# Altium schematic symbol library FPGA_Xilinx_Virtex6.SchLib: 28 symbols (part 12 of 15)
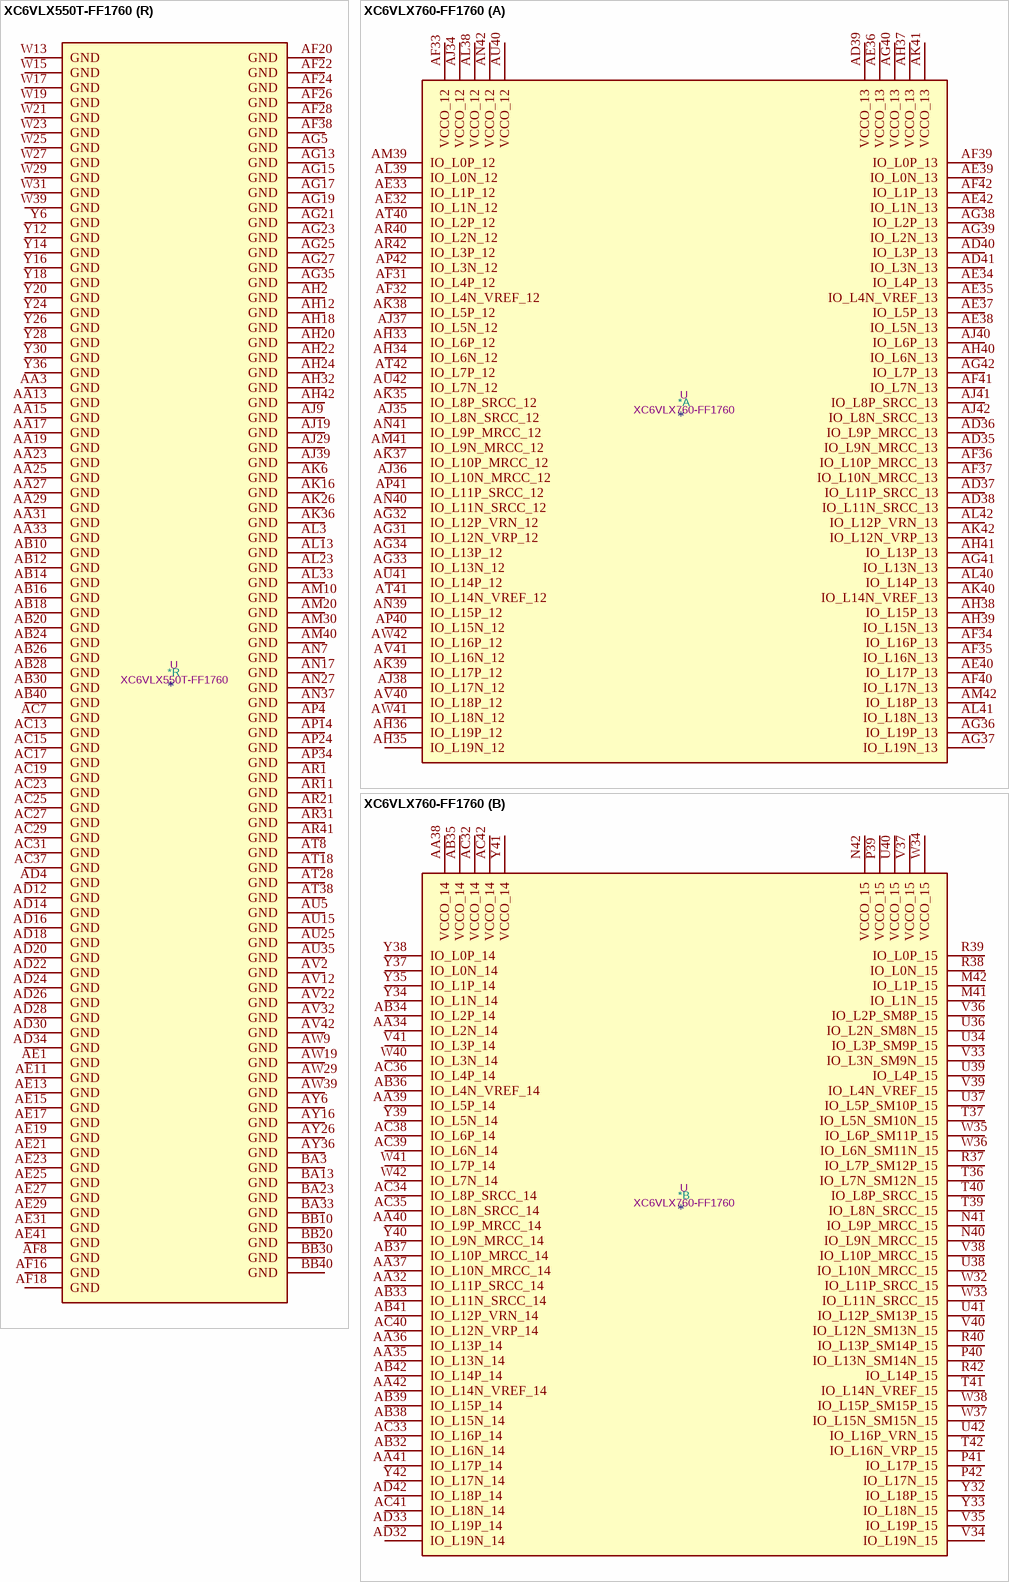
[diagram p112: symbols XC6VLX550T-FF1760 to XC6VLX760-FF1760]

## XC6VLX550T-FF1760
designator *  value XC6VLX550T-FF1760  Reference: U
Virtex 6 LXT 550 XC6VLX550T-FF1760; ki_keywords: FPGA; Description_: Virtex 6 LXT 550 XC6VLX550T-FF1760
part A pins: AD35 IO_L9N_MRCC_13, AD36 IO_L9P_MRCC_13, AD37 IO_L11P_SRCC_13, AD38 IO_L11N_SRCC_13, AD39 VCCO_13, AD40 IO_L3P_13, AD41 IO_L3N_13, AE32 IO_L1N_12, AE33 IO_L1P_12, AE34 IO_L4P_13, AE35 IO_L4N_VREF_13, AE36 VCCO_13, AE37 IO_L5P_13, AE38 IO_L5N_13, AE39 IO_L0N_13, AE40 IO_L17P_13, AE42 IO_L1N_13, AF31 IO_L4P_12, AF32 IO_L4N_VREF_12, AF33 VCCO_12, AF34 IO_L16P_13, AF35 IO_L16N_13, AF36 IO_L10P_MRCC_13, AF37 IO_L10N_MRCC_13, AF39 IO_L0P_13, AF40 IO_L17N_13, AF41 IO_L7N_13, AF42 IO_L1P_13, AG31 IO_L12N_VRP_12, AG32 IO_L12P_VRN_12, AG33 IO_L13N_12, AG34 IO_L13P_12, AG36 IO_L19P_13, AG37 IO_L19N_13, AG38 IO_L2P_13, AG39 IO_L2N_13, AG40 VCCO_13, AG41 IO_L13N_13, AG42 IO_L7P_13, AH33 IO_L6P_12, AH34 IO_L6N_12, AH35 IO_L19N_12, AH36 IO_L19P_12, AH37 VCCO_13, AH38 IO_L15P_13, AH39 IO_L15N_13, AH40 IO_L6N_13, AH41 IO_L13P_13, AJ34 VCCO_12, AJ35 IO_L8N_SRCC_12, AJ36 IO_L10N_MRCC_12, AJ37 IO_L5N_12, AJ38 IO_L17N_12, AJ40 IO_L6P_13, AJ41 IO_L8P_SRCC_13, AJ42 IO_L8N_SRCC_13, AK35 IO_L8P_SRCC_12, AK37 IO_L10P_MRCC_12, AK38 IO_L5P_12, AK39 IO_L17P_12, AK40 IO_L14N_VREF_13, AK41 VCCO_13, AK42 IO_L12N_VRP_13, AL38 VCCO_12, AL39 IO_L0N_12, AL40 IO_L14P_13, AL41 IO_L18N_13, AL42 IO_L12P_VRN_13, AM39 IO_L0P_12, AM41 IO_L9N_MRCC_12, AM42 IO_L18P_13, AN39 IO_L15P_12, AN40 IO_L11N_SRCC_12, AN41 IO_L9P_MRCC_12, AN42 VCCO_12, AP40 IO_L15N_12, AP41 IO_L11P_SRCC_12, AP42 IO_L3N_12, AR40 IO_L2N_12, AR42 IO_L3P_12, AT40 IO_L2P_12, AT41 IO_L14N_VREF_12, AT42 IO_L7P_12, AU40 VCCO_12, AU41 IO_L14P_12, AU42 IO_L7N_12, AV40 IO_L18P_12, AV41 IO_L16N_12, AW41 IO_L18N_12, AW42 IO_L16P_12
part B pins: AA32 IO_L11P_SRCC_14, AA34 IO_L2N_14, AA35 IO_L13N_14, AA36 IO_L13P_14, AA37 IO_L10N_MRCC_14, AA38 VCCO_14, AA39 IO_L5P_14, AA40 IO_L9P_MRCC_14, AA41 IO_L17P_14, AA42 IO_L14N_VREF_14, AB32 IO_L16N_14, AB33 IO_L11N_SRCC_14, AB34 IO_L2P_14, AB35 VCCO_14, AB36 IO_L4N_VREF_14, AB37 IO_L10P_MRCC_14, AB38 IO_L15N_14, AB39 IO_L15P_14, AB41 IO_L12P_VRN_14, AB42 IO_L14P_14, AC32 VCCO_14, AC33 IO_L16P_14, AC34 IO_L8P_SRCC_14, AC35 IO_L8N_SRCC_14, AC36 IO_L4P_14, AC38 IO_L6P_14, AC39 IO_L6N_14, AC40 IO_L12N_VRP_14, AC41 IO_L18N_14, AC42 VCCO_14, AD32 IO_L19N_14, AD33 IO_L19P_14, AD42 IO_L18P_14, M41 IO_L1N_15, M42 IO_L1P_15, N40 IO_L9N_MRCC_15, N41 IO_L9P_MRCC_15, N42 VCCO_15, P39 VCCO_15, P40 IO_L13N_SM14N_15, P41 IO_L17P_15, P42 IO_L17N_15, R37 IO_L7P_SM12P_15, R38 IO_L0N_15, R39 IO_L0P_15, R40 IO_L13P_SM14P_15, R42 IO_L14P_15, T36 IO_L7N_SM12N_15, T37 IO_L5N_SM10N_15, T39 IO_L8N_SRCC_15, T40 IO_L8P_SRCC_15, T41 IO_L14N_VREF_15, T42 IO_L16N_VRP_15, U34 IO_L3P_SM9P_15, U36 IO_L2N_SM8N_15, U37 IO_L5P_SM10P_15, U38 IO_L10N_MRCC_15, U39 IO_L4P_15, U40 VCCO_15, U41 IO_L12P_SM13P_15, U42 IO_L16P_VRN_15, V33 IO_L3N_SM9N_15, V34 IO_L19N_15, V35 IO_L19P_15, V36 IO_L2P_SM8P_15, V37 VCCO_15, V38 IO_L10P_MRCC_15, V39 IO_L4N_VREF_15, V40 IO_L12N_SM13N_15, V41 IO_L3P_14, W32 IO_L11P_SRCC_15, W33 IO_L11N_SRCC_15, W34 VCCO_15, W35 IO_L6P_SM11P_15, W36 IO_L6N_SM11N_15, W37 IO_L15N_SM15N_15, W38 IO_L15P_SM15P_15, W40 IO_L3N_14, W41 IO_L7P_14, W42 IO_L7N_14, Y32 IO_L18P_15, Y33 IO_L18N_15, Y34 IO_L1N_14, Y35 IO_L1P_14, Y37 IO_L0N_14, Y38 IO_L0P_14, Y39 IO_L5N_14, Y40 IO_L9N_MRCC_14, Y41 VCCO_14, Y42 IO_L17N_14
part C pins: A40 IO_L3N_17, A41 IO_L3P_17, B39 IO_L1P_17, B41 IO_L7P_17, B42 IO_L7N_17, C39 IO_L1N_17, C40 IO_L9N_MRCC_17, C41 IO_L9P_MRCC_17, C42 VCCO_17, D39 VCCO_17, D40 IO_L14P_17, D41 IO_L16N_17, D42 IO_L16P_17, E38 IO_L5N_17, E39 IO_L5P_17, E40 IO_L14N_VREF_17, E42 IO_L18N_17, F39 IO_L2N_17, F40 IO_L2P_17, F41 IO_L18P_17, F42 IO_L13N_16, G37 IO_L0P_17, G38 IO_L4N_VREF_17, G39 IO_L12N_VRP_17, G40 VCCO_16, G41 IO_L11N_SRCC_16, G42 IO_L13P_16, H36 IO_L0N_17, H37 VCCO_17, H38 IO_L4P_17, H39 IO_L12P_VRN_17, H40 IO_L11P_SRCC_16, H41 IO_L19N_16, J34 VCCO_17, J35 IO_L17N_17, J36 IO_L19P_17, J37 IO_L10N_MRCC_17, J38 IO_L10P_MRCC_17, J40 IO_L9P_MRCC_16, J41 IO_L16N_16, J42 IO_L19P_16, K34 IO_L17P_17, K35 IO_L19N_17, K37 IO_L15P_17, K38 IO_L0P_16, K39 IO_L9N_MRCC_16, K40 IO_L6N_16, K41 VCCO_16, K42 IO_L16P_16, L34 IO_L11N_SRCC_17, L35 IO_L6P_17, L36 IO_L15N_17, L37 IO_L0N_16, L38 VCCO_16, L39 IO_L4N_VREF_16, L40 IO_L6P_16, L41 IO_L18N_16, L42 IO_L18P_16, M33 IO_L11P_SRCC_17, M34 IO_L6N_17, M35 VCCO_17, M36 IO_L3P_16, M37 IO_L10N_MRCC_16, M38 IO_L10P_MRCC_16, M39 IO_L4P_16, N32 VCCO_17, N33 IO_L13P_17, N34 IO_L8N_SRCC_17, N35 IO_L3N_16, N36 IO_L5N_16, N38 IO_L12N_VRP_16, N39 IO_L12P_VRN_16, P32 IO_L13N_17, P33 IO_L8P_SRCC_17, P35 IO_L17N_16, P36 IO_L5P_16, P37 IO_L15N_16, P38 IO_L15P_16, R32 IO_L1N_16, R33 IO_L1P_16, R34 IO_L17P_16, R35 IO_L2N_16, R36 VCCO_16, T31 IO_L7P_16, T32 IO_L7N_16, T33 VCCO_16, T34 IO_L8N_SRCC_16, T35 IO_L2P_16, U31 IO_L14P_16, U32 IO_L14N_VREF_16, U33 IO_L8P_SRCC_16
part D pins: AH26 IO_L4N_VREF_21, AJ22 IO_L8N_SRCC_21, AJ23 IO_L8P_SRCC_21, AJ24 VCCO_21, AJ25 IO_L12N_VRP_21, AJ26 IO_L4P_21, AK22 IO_L16N_21, AK23 IO_L16P_21, AK24 IO_L19P_21, AK25 IO_L12P_VRN_21, AL24 IO_L15P_21, AL25 IO_L19N_21, AM23 IO_L18P_21, AM24 IO_L15N_21, AM25 VCCO_21, AM26 IO_L17N_21, AN23 IO_L18N_21, AN24 IO_L14P_21, AN25 IO_L14N_VREF_21, AN26 IO_L17P_21, AP23 IO_L11P_SRCC_20, AP25 IO_L9P_MRCC_20, AP26 IO_L13P_21, AP27 IO_L13N_21, AR23 IO_L11N_SRCC_20, AR24 IO_L2P_20, AR25 IO_L9N_MRCC_20, AR26 VCCO_21, AR27 IO_L11N_SRCC_21, AT22 IO_L10P_MRCC_20, AT23 VCCO_20, AT24 IO_L15P_20, AT25 IO_L2N_20, AT26 IO_L10N_MRCC_21, AT27 IO_L11P_SRCC_21, AU22 IO_L10N_MRCC_20, AU23 IO_L19P_20, AU24 IO_L15N_20, AU26 IO_L10P_MRCC_21, AU27 IO_L5P_21, AU28 IO_L5N_21, AU29 IO_L0P_21, AV23 IO_L19N_20, AV24 IO_L5P_20, AV25 IO_L0N_20, AV26 IO_L0P_20, AV27 VCCO_21, AV28 IO_L6N_21, AV29 IO_L0N_21, AW22 IO_L6P_20, AW23 IO_L6N_20, AW24 VCCO_20, AW25 IO_L5N_20, AW26 IO_L1N_20, AW27 IO_L6P_21, AW28 IO_L9P_MRCC_21, AW30 IO_L2N_21, AY21 VCCO_20, AY22 IO_L16P_20, AY23 IO_L16N_20, AY24 IO_L8N_SRCC_20, AY25 IO_L4N_VREF_20, AY27 IO_L1P_20, AY28 IO_L3N_20, AY29 IO_L9N_MRCC_21, AY30 IO_L2P_21, AY31 VCCO_21, AY32 IO_L1N_21, BA21 IO_L12P_VRN_20, BA22 IO_L18P_20, BA24 IO_L8P_SRCC_20, BA25 IO_L4P_20, BA26 IO_L13N_20, BA27 IO_L17N_20, BA28 VCCO_20, BA29 IO_L3P_20, BA30 IO_L7N_21, BA31 IO_L3P_21, BA32 IO_L1P_21, BB21 IO_L12N_VRP_20, BB22 IO_L18N_20, BB23 IO_L14P_20, BB24 IO_L14N_VREF_20, BB25 VCCO_20, BB26 IO_L13P_20, BB27 IO_L17P_20, BB28 IO_L7N_20, BB29 IO_L7P_20, BB31 IO_L7P_21, BB32 IO_L3N_21
part E pins: AJ27 IO_L19N_22, AJ28 IO_L0P_22, AK27 IO_L19P_22, AK28 IO_L0N_22, AL26 IO_L18P_22, AL27 IO_L16P_22, AL28 VCCO_22, AM27 IO_L18N_22, AM28 IO_L16N_22, AM29 IO_L17P_22, AM31 IO_L6P_23, AM32 IO_L6N_23, AN28 IO_L14P_22, AN29 IO_L17N_22, AN30 IO_L18P_23, AN31 IO_L18N_23, AN32 VCCO_23, AN33 IO_L13N_23, AP28 IO_L14N_VREF_22, AP29 VCCO_22, AP30 IO_L7N_22, AP31 IO_L7P_22, AP32 IO_L16P_23, AP33 IO_L13P_23, AR28 IO_L13P_22, AR29 IO_L11N_SRCC_22, AR30 IO_L9P_MRCC_22, AR32 IO_L16N_23, AR33 IO_L14P_23, AR34 IO_L17N_23, AT29 IO_L13N_22, AT30 IO_L11P_SRCC_22, AT31 IO_L9N_MRCC_22, AT32 IO_L4P_22, AT33 VCCO_23, AT34 IO_L14N_VREF_23, AT35 IO_L17P_23, AU30 VCCO_22, AU31 IO_L15N_22, AU32 IO_L6N_22, AU33 IO_L4N_VREF_22, AU34 IO_L5N_22, AU36 IO_L10P_MRCC_23, AU37 IO_L10N_MRCC_23, AU38 IO_L5N_23, AU39 IO_L0P_23, AV30 IO_L12P_VRN_22, AV31 IO_L15P_22, AV33 IO_L6P_22, AV34 IO_L5P_22, AV35 IO_L19N_23, AV36 IO_L15P_23, AV37 VCCO_23, AV38 IO_L5P_23, AV39 IO_L0N_23, AW31 IO_L12N_VRP_22, AW32 IO_L10P_MRCC_22, AW33 IO_L10N_MRCC_22, AW34 VCCO_22, AW35 IO_L2N_22, AW36 IO_L19P_23, AW37 IO_L15N_23, AW38 IO_L2N_23, AW40 IO_L1N_23, AY33 IO_L8P_SRCC_22, AY34 IO_L8N_SRCC_22, AY35 IO_L2P_22, AY37 IO_L4N_VREF_23, AY38 IO_L2P_23, AY39 IO_L9N_MRCC_23, AY40 IO_L1P_23, AY41 VCCO_23, AY42 IO_L3N_23, BA34 IO_L1P_22, BA35 IO_L1N_22, BA36 IO_L12N_VRP_23, BA37 IO_L4P_23, BA38 VCCO_23, BA39 IO_L9P_MRCC_23, BA40 IO_L11P_SRCC_23, BA41 IO_L7P_23, BA42 IO_L3P_23, BB33 IO_L3P_22, BB34 IO_L3N_22, BB35 VCCO_22, BB36 IO_L12P_VRN_23, BB37 IO_L8P_SRCC_23, BB38 IO_L8N_SRCC_23, BB39 IO_L11N_SRCC_23, BB41 IO_L7N_23
part F pins: A36 IO_L7P_25, A37 IO_L9N_MRCC_25, A38 VCCO_25, A39 IO_L18P_GC_25, AG30 VCCO_24, AH29 IO_L18P_24, AH30 IO_L11N_SRCC_24, AH31 IO_L2N_D14_24, AJ30 IO_L18N_24, AJ31 IO_L11P_SRCC_24, AJ32 IO_L2P_D15_24, AJ33 IO_L4N_VREF_D10_24, AK29 IO_L19N_24, AK30 IO_L16P_RS0_24, AK31 VCCO_24, AK32 IO_L17N_VRP_24, AK33 IO_L17P_VRN_24, AK34 IO_L4P_D11_24, AL29 IO_L19P_24, AL30 IO_L16N_CSO_B_24, AL31 IO_L14P_FCS_B_24, AL32 IO_L14N_VREF_FOE_B_MOSI_24, AL34 IO_L7N_D4_24, AL35 IO_L7P_D5_24, AL36 IO_L0P_GC_24, AL37 IO_L0N_GC_24, AM33 IO_L13P_D1_FS1_24, AM34 IO_L13N_D0_FS0_24, AM35 VCCO_24, AM36 IO_L5P_D9_24, AM37 IO_L5N_D8_24, AM38 IO_L6N_D6_24, AN34 IO_L12P_D3_24, AN35 IO_L12N_D2_FS2_24, AN36 IO_L10N_MRCC_24, AN38 IO_L6P_D7_24, AP35 IO_L15P_FWE_B_24, AP36 IO_L15N_RS1_24, AP37 IO_L10P_MRCC_24, AP38 IO_L1N_GC_24, AP39 VCCO_24, AR35 IO_L8P_SRCC_24, AR36 VCCO_24, AR37 IO_L9N_MRCC_24, AR38 IO_L1P_GC_24, AR39 IO_L3N_D12_24, AT36 IO_L8N_SRCC_24, AT37 IO_L9P_MRCC_24, AT39 IO_L3P_D13_24, B36 IO_L7N_25, B37 IO_L9P_MRCC_25, B38 IO_L18N_GC_25, C36 IO_L11P_SRCC_25, C38 IO_L5N_25, D36 IO_L16P_VRN_25, D37 IO_L11N_SRCC_25, D38 IO_L5P_25, E35 IO_L16N_VRP_25, E36 VCCO_25, E37 IO_L15N_25, F33 VCCO_25, F34 IO_L0P_25, F35 IO_L0N_25, F36 IO_L10N_MRCC_25, F37 IO_L15P_25, G34 IO_L12P_25, G36 IO_L10P_MRCC_25, H33 IO_L12N_25, H34 IO_L6N_25, H35 IO_L6P_25, J32 IO_L8N_SRCC_25, J33 IO_L14N_VREF_25, K31 VCCO_25, K32 IO_L8P_SRCC_25, K33 IO_L14P_25, L30 IO_L4N_VREF_25, L31 IO_L4P_25, L32 IO_L13N_25, M29 IO_L3P_25, M31 IO_L13P_25, M32 IO_L19N_GC_25, N28 IO_L3N_25, N29 IO_L2N_25, N30 IO_L17P_25, N31 IO_L19P_GC_25, P28 IO_L1N_25, P29 VCCO_25, P30 IO_L2P_25, P31 IO_L17N_25, R28 IO_L1P_25
part G pins: A28 VCCO_27, A29 IO_L16N_27, A30 IO_L16P_27, A31 IO_L18P_27, A32 IO_L7P_26, A34 IO_L9N_MRCC_26, A35 IO_L9P_MRCC_26, B28 IO_L11P_SRCC_27, B29 IO_L11N_SRCC_27, B31 IO_L18N_27, B32 IO_L7N_26, B33 IO_L11P_SRCC_26, B34 IO_L18N_26, B35 VCCO_26, C28 IO_L13N_27, C29 IO_L13P_27, C30 IO_L14N_VREF_27, C31 IO_L14P_27, C32 VCCO_26, C33 IO_L15P_26, C34 IO_L11N_SRCC_26, C35 IO_L18P_26, D28 IO_L10P_MRCC_27, D29 VCCO_27, D30 IO_L15P_27, D31 IO_L19P_27, D32 IO_L15N_26, D33 IO_L10P_MRCC_26, D35 IO_L19P_26, E28 IO_L10N_MRCC_27, E29 IO_L15N_27, E30 IO_L19N_27, E32 IO_L6P_26, E33 IO_L10N_MRCC_26, E34 IO_L19N_26, F27 IO_L5N_27, F29 IO_L6N_27, F30 IO_L5N_26, F31 IO_L5P_26, F32 IO_L6N_26, G26 IO_L3N_27, G27 IO_L3P_27, G28 IO_L5P_27, G29 IO_L6P_27, G30 VCCO_26, G31 IO_L14P_26, G32 IO_L16N_26, G33 IO_L16P_26, H26 IO_L7P_27, H27 VCCO_27, H28 IO_L12P_VRN_27, H29 IO_L17P_26, H30 IO_L17N_26, H31 IO_L14N_VREF_26, J26 IO_L7N_27, J27 IO_L12N_VRP_27, J28 IO_L13N_26, J30 IO_L4P_26, J31 IO_L8N_SRCC_26, K27 IO_L17N_27, K28 IO_L13P_26, K29 IO_L4N_VREF_26, K30 IO_L8P_SRCC_26, L25 IO_L0P_27, L26 IO_L17P_27, L27 IO_L3P_26, L28 VCCO_26, L29 IO_L12N_VRP_26, M21 IO_L2N_27, M22 IO_L2P_27, M23 IO_L4N_VREF_27, M24 IO_L0N_27, M25 VCCO_27, M26 IO_L1N_27, M27 IO_L3N_26, M28 IO_L12P_VRN_26, N21 IO_L8P_SRCC_27, N22 VCCO_27, N23 IO_L4P_27, N24 IO_L9N_MRCC_27, N25 IO_L1P_27, N26 IO_L1N_26, P22 IO_L8N_SRCC_27, P23 IO_L9P_MRCC_27, P25 IO_L2P_26, P26 IO_L1P_26, P27 IO_L0P_26, R25 IO_L2N_26, R26 VCCO_26, R27 IO_L0N_26
part H pins: A22 IO_L9N_MRCC_28, A24 IO_L16N_28, A25 IO_L16P_28, A26 IO_L18N_28, A27 IO_L18P_28, AL22 IO_L10N_MRCC_30, AM21 IO_L15N_30, AM22 IO_L10P_MRCC_30, AN20 IO_L16P_30, AN21 IO_L15P_30, AN22 VCCO_30, AP20 IO_L16N_30, AP21 IO_L18P_30, AP22 IO_L13N_30, AR19 IO_L1N_30, AR20 IO_L18N_30, AR22 IO_L13P_30, AT19 IO_L1P_30, AT20 IO_L17N_30, AT21 IO_L17P_30, AU18 IO_L0P_30, AU19 IO_L5P_30, AU20 VCCO_30, AU21 IO_L19P_30, AV17 VCCO_30, AV18 IO_L0N_30, AV19 IO_L5N_30, AV20 IO_L6P_30, AV21 IO_L19N_30, AW17 IO_L8N_SRCC_30, AW18 IO_L12N_VRP_30, AW20 IO_L6N_30, AW21 IO_L11P_SRCC_30, AY17 IO_L8P_SRCC_30, AY18 IO_L12P_VRN_30, AY19 IO_L14P_30, AY20 IO_L11N_SRCC_30, B22 IO_L9P_MRCC_28, B23 IO_L11N_SRCC_28, B24 IO_L1P_28, B25 VCCO_28, B26 IO_L12P_VRN_28, B27 IO_L14P_28, BA14 IO_L2N_30, BA15 IO_L4N_VREF_30, BA16 IO_L3N_30, BA17 IO_L3P_30, BA18 VCCO_30, BA19 IO_L14N_VREF_30, BA20 IO_L9P_MRCC_30, BB14 IO_L2P_30, BB15 VCCO_30, BB16 IO_L4P_30, BB17 IO_L7P_30, BB18 IO_L7N_30, BB19 IO_L9N_MRCC_30, C22 VCCO_28, C23 IO_L11P_SRCC_28, C24 IO_L1N_28, C25 IO_L12N_VRP_28, C26 IO_L14N_VREF_28, D22 IO_L0N_28, D23 IO_L5N_28, D25 IO_L15N_28, D26 IO_L15P_28, D27 IO_L19N_28, E22 IO_L0P_28, E23 IO_L5P_28, E24 IO_L6P_28, E25 IO_L6N_28, E26 VCCO_28, E27 IO_L19P_28, F22 IO_L13P_28, F23 VCCO_28, F24 IO_L3N_28, F25 IO_L10N_MRCC_28, F26 IO_L10P_MRCC_28, G22 IO_L13N_28, G23 IO_L17P_28, G24 IO_L3P_28, H23 IO_L17N_28, H24 IO_L7P_28, H25 IO_L7N_28, J23 IO_L8N_SRCC_28, J24 VCCO_28, J25 IO_L2N_28, K23 IO_L8P_SRCC_28, K24 IO_L2P_28, K25 IO_L4N_VREF_28, L24 IO_L4P_28
part I pins: AJ17 IO_L15N_32, AJ18 IO_L7N_32, AJ20 IO_L6P_31, AJ21 IO_L10N_MRCC_31, AK15 IO_L2N_32, AK17 IO_L15P_32, AK18 IO_L7P_32, AK19 IO_L6N_31, AK20 IO_L10P_MRCC_31, AK21 VCCO_31, AL15 IO_L2P_32, AL16 IO_L14N_VREF_32, AL17 IO_L19N_32, AL18 VCCO_32, AL19 IO_L16P_31, AL20 IO_L18N_31, AL21 IO_L18P_31, AM15 VCCO_32, AM16 IO_L14P_32, AM17 IO_L19P_32, AM18 IO_L16N_31, AM19 IO_L3N_31, AN15 IO_L18N_32, AN16 IO_L1N_32, AN18 IO_L1N_31, AN19 IO_L3P_31, AP15 IO_L18P_32, AP16 IO_L1P_32, AP17 IO_L7P_31, AP18 IO_L1P_31, AP19 VCCO_31, AR12 IO_L16N_32, AR13 IO_L3N_32, AR14 IO_L3P_32, AR15 IO_L9N_MRCC_32, AR16 VCCO_31, AR17 IO_L7N_31, AR18 IO_L9N_MRCC_31, AT10 IO_L4P_32, AT11 IO_L4N_VREF_32, AT12 IO_L16P_32, AT13 VCCO_32, AT14 IO_L9P_MRCC_32, AT15 IO_L14N_VREF_31, AT16 IO_L14P_31, AT17 IO_L9P_MRCC_31, AU9 IO_L0P_32, AU10 VCCO_32, AU11 IO_L5P_32, AU12 IO_L6P_32, AU13 IO_L10N_MRCC_32, AU14 IO_L10P_MRCC_32, AU16 IO_L5P_31, AU17 IO_L19P_31, AV8 IO_L8N_SRCC_32, AV9 IO_L0N_32, AV10 IO_L5N_32, AV11 IO_L6N_32, AV13 IO_L0P_31, AV14 IO_L0N_31, AV15 IO_L5N_31, AV16 IO_L19N_31, AW8 IO_L8P_SRCC_32, AW10 IO_L11P_SRCC_32, AW11 IO_L2P_31, AW12 IO_L12N_VRP_31, AW13 IO_L12P_VRN_31, AW14 VCCO_31, AW15 IO_L15N_31, AW16 IO_L15P_31, AY8 IO_L12P_VRN_32, AY9 IO_L11N_SRCC_32, AY10 IO_L2N_31, AY11 VCCO_31, AY12 IO_L11P_SRCC_31, AY13 IO_L11N_SRCC_31, AY14 IO_L13N_31, AY15 IO_L13P_31, BA7 IO_L12N_VRP_32, BA8 VCCO_32, BA9 IO_L13N_32, BA10 IO_L4N_VREF_31, BA11 IO_L4P_31, BA12 IO_L8P_SRCC_31, BB7 IO_L17P_32, BB8 IO_L17N_32, BB9 IO_L13P_32, BB11 IO_L8N_SRCC_31, BB12 IO_L17P_31, BB13 IO_L17N_31
part J pins: AH11 IO_L0P_GC_34, AH16 IO_L6N_33, AJ10 IO_L0N_GC_34, AJ11 IO_L13N_A00_D16_34, AJ12 IO_L16N_A20_34, AJ13 IO_L2N_33, AJ14 VCCO_33, AJ15 IO_L5N_33, AJ16 IO_L6P_33, AK8 IO_L2N_A14_D30_34, AK9 IO_L11P_SRCC_34, AK10 IO_L13P_A01_D17_34, AK11 VCCO_34, AK12 IO_L16P_A21_34, AK13 IO_L2P_33, AK14 IO_L5P_33, AL7 IO_L2P_A15_D31_34, AL8 VCCO_34, AL9 IO_L11N_SRCC_34, AL10 IO_L17N_A18_34, AL11 IO_L18N_A16_34, AL12 IO_L18P_A17_34, AL14 IO_L18N_33, AM7 IO_L5N_A08_D24_34, AM8 IO_L19N_VRP_34, AM9 IO_L17P_A19_34, AM11 IO_L1N_33, AM12 IO_L14P_33, AM13 IO_L16P_33, AM14 IO_L18P_33, AN6 IO_L5P_A09_D25_34, AN8 IO_L19P_VRN_34, AN9 IO_L4N_VREF_33, AN10 IO_L1P_33, AN11 IO_L14N_VREF_33, AN12 VCCO_33, AN13 IO_L16N_33, AN14 IO_L17P_33, AP5 IO_L6N_A06_D22_34, AP6 IO_L15N_A22_34, AP7 IO_L15P_A23_34, AP8 IO_L4P_33, AP9 VCCO_33, AP10 IO_L3N_33, AP11 IO_L7P_33, AP12 IO_L7N_33, AP13 IO_L17N_33, AR5 IO_L6P_A07_D23_34, AR6 VCCO_34, AR7 IO_L8N_SRCC_33, AR8 IO_L0N_33, AR9 IO_L9N_MRCC_33, AR10 IO_L3P_33, AT4 IO_L14N_VREF_A24_34, AT5 IO_L14P_A25_34, AT6 IO_L8P_SRCC_33, AT7 IO_L0P_33, AT9 IO_L9P_MRCC_33, AU4 IO_L4P_A11_D27_34, AU6 IO_L10N_MRCC_33, AU7 IO_L19N_33, AU8 IO_L19P_33, AV3 IO_L4N_VREF_A10_D26_34, AV4 IO_L10N_MRCC_34, AV5 IO_L10P_MRCC_34, AV6 IO_L10P_MRCC_33, AV7 VCCO_33, AW1 IO_L1N_GC_34, AW2 IO_L1P_GC_34, AW3 IO_L9N_MRCC_34, AW4 VCCO_34, AW5 IO_L15N_33, AW6 IO_L15P_33, AW7 IO_L11P_SRCC_33, AY1 VCCO_34, AY2 IO_L3P_A13_D29_34, AY3 IO_L9P_MRCC_34, AY4 IO_L12P_A03_D19_34, AY5 IO_L12N_VRP_33, AY7 IO_L11N_SRCC_33, BA1 IO_L3N_A12_D28_34, BA2 IO_L7P_A05_D21_34, BA4 IO_L12N_A02_D18_34, BA5 IO_L12P_VRN_33, BA6 IO_L13N_33, BB2 IO_L7N_A04_D20_34, BB3 IO_L8N_SRCC_34, BB4 IO_L8P_SRCC_34, BB5 VCCO_33, BB6 IO_L13P_33
part K pins: A5 IO_L14P_36, A6 IO_L14N_VREF_36, A7 IO_L8N_SRCC_36, A8 VCCO_36, A9 IO_L3P_36, A10 IO_L3N_36, A11 IO_L1P_36, A12 IO_L1N_36, B6 IO_L18N_36, B7 IO_L8P_SRCC_36, B8 IO_L9P_MRCC_36, B9 IO_L9N_MRCC_36, B11 IO_L7N_36, B12 IO_L7P_36, C6 IO_L18P_36, C8 IO_L4P_36, C9 IO_L4N_VREF_36, C10 IO_L11N_SRCC_36, C11 IO_L11P_SRCC_36, C12 VCCO_36, D6 IO_L1P_35, D7 IO_L1N_35, D8 IO_L6N_36, D9 VCCO_36, D10 IO_L0P_36, D11 IO_L0N_36, D12 IO_L5N_36, E6 VCCO_35, E7 IO_L5N_SM2N_35, E8 IO_L6P_36, E9 IO_L15P_36, E10 IO_L15N_36, E12 IO_L5P_36, F6 IO_L6N_SM3N_35, F7 IO_L5P_SM2P_35, F9 IO_L0N_35, F10 IO_L0P_35, F11 IO_L19P_36, F12 IO_L19N_36, F13 VCCO_36, G6 IO_L6P_SM3P_35, G7 IO_L10P_MRCC_35, G8 IO_L10N_MRCC_35, G9 IO_L2N_SM0N_35, G10 VCCO_35, G11 IO_L2P_36, G12 IO_L2N_36, G13 IO_L17P_36, G14 IO_L13N_36, H7 VCCO_35, H8 IO_L15N_SM7N_35, H9 IO_L2P_SM0P_35, H10 IO_L3N_SM1N_35, H11 IO_L3P_SM1P_35, H13 IO_L17N_36, H14 IO_L13P_36, J7 IO_L19N_GC_35, J8 IO_L15P_SM7P_35, J10 IO_L7P_SM4P_35, J11 IO_L7N_SM4N_35, J12 IO_L9N_MRCC_35, J13 IO_L12P_VRN_36, J14 VCCO_36, J15 IO_L10P_MRCC_36, J16 IO_L10N_MRCC_36, K8 IO_L19P_GC_35, K9 IO_L12N_SM5N_35, K10 IO_L8P_SRCC_35, K11 VCCO_35, K12 IO_L11P_SRCC_35, K13 IO_L9P_MRCC_35, K14 IO_L12N_VRP_36, K15 IO_L16N_36, L10 IO_L12P_SM5P_35, L11 IO_L8N_SRCC_35, L12 IO_L11N_SRCC_35, L14 IO_L4N_VREF_35, L15 IO_L13N_SM6N_35, L16 IO_L16P_36, M12 IO_L14N_VREF_35, M13 IO_L14P_35, M14 IO_L4P_35, M15 VCCO_35, M16 IO_L13P_SM6P_35, N14 IO_L16P_VRN_35, N15 IO_L16N_VRP_35, N16 IO_L17P_35, P15 IO_L18N_GC_35, P16 IO_L17N_35, R15 IO_L18P_GC_35
part L pins: A14 IO_L1P_37, A15 IO_L1N_37, A16 IO_L18P_38, A17 IO_L18N_38, A18 VCCO_38, A19 IO_L13P_38, A20 IO_L13N_38, A21 IO_L11N_SRCC_38, B13 IO_L3P_37, B14 IO_L3N_37, B15 VCCO_37, B16 IO_L16P_38, B17 IO_L16N_38, B18 IO_L14P_38, B19 IO_L14N_VREF_38, B21 IO_L11P_SRCC_38, C13 IO_L12P_VRN_37, C14 IO_L12N_VRP_37, C15 IO_L11P_SRCC_37, C16 IO_L7P_37, C18 IO_L12P_VRN_38, C19 IO_L12N_VRP_38, C20 IO_L17P_38, C21 IO_L9N_MRCC_38, D13 IO_L0P_37, D15 IO_L11N_SRCC_37, D16 IO_L7N_37, D17 IO_L10P_MRCC_38, D18 IO_L10N_MRCC_38, D19 VCCO_38, D20 IO_L17N_38, D21 IO_L9P_MRCC_38, E13 IO_L0N_37, E14 IO_L5P_37, E15 IO_L5N_37, E16 VCCO_37, E17 IO_L6P_38, E18 IO_L15N_38, E19 IO_L5N_38, E20 IO_L0N_38, F14 IO_L6N_37, F15 IO_L6P_37, F16 IO_L10N_MRCC_37, F17 IO_L6N_38, F19 IO_L15P_38, F20 IO_L5P_38, F21 IO_L0P_38, G16 IO_L10P_MRCC_37, G17 IO_L13N_37, G18 IO_L4P_38, G19 IO_L19P_38, G20 VCCO_38, G21 IO_L3P_38, H15 IO_L8P_SRCC_37, H16 IO_L8N_SRCC_37, H17 VCCO_37, H18 IO_L13P_37, H19 IO_L4N_VREF_38, H20 IO_L19N_38, H21 IO_L3N_38, J17 IO_L2N_37, J18 IO_L15N_37, J20 IO_L2N_38, J21 IO_L1N_38, J22 IO_L1P_38, K17 IO_L2P_37, K18 IO_L15P_37, K19 IO_L17P_37, K20 IO_L2P_38, K21 VCCO_38, K22 IO_L7P_38, L17 IO_L14N_VREF_37, L18 VCCO_37, L19 IO_L17N_37, L20 IO_L8N_SRCC_38, L21 IO_L8P_SRCC_38, L22 IO_L7N_38, M17 IO_L14P_37, M18 IO_L19P_37, M19 IO_L19N_37, N18 IO_L16N_37, N19 IO_L4N_VREF_37, N20 IO_L9N_MRCC_37, P17 IO_L16P_37, P18 IO_L18N_37, P19 VCCO_37, P20 IO_L4P_37, P21 IO_L9P_MRCC_37, R17 IO_L18P_37
part M pins: AC10 IO_L2P_43, AC11 IO_L2N_43, AD5 IO_L0N_43, AD6 IO_L0P_43, AD7 IO_L9N_MRCC_43, AD8 IO_L11P_SRCC_43, AD9 VCCO_43, AD10 IO_L13P_43, AD11 IO_L13N_43, AE4 IO_L4N_VREF_43, AE5 IO_L5N_43, AE6 VCCO_43, AE7 IO_L9P_MRCC_43, AE8 IO_L11N_SRCC_43, AE9 IO_L17N_43, AE10 IO_L17P_43, AF1 IO_L1N_43, AF2 IO_L3N_43, AF3 VCCO_43, AF4 IO_L4P_43, AF5 IO_L5P_43, AF6 IO_L15N_43, AF7 IO_L15P_43, AF9 IO_L8N_SRCC_43, AF10 IO_L8P_SRCC_43, AF11 IO_L19N_43, AF12 IO_L19P_43, AG1 IO_L1P_43, AG2 IO_L3P_43, AG3 IO_L14N_VREF_43, AG4 IO_L10N_MRCC_43, AG6 IO_L6N_43, AG7 IO_L6P_43, AG8 IO_L12N_VRP_43, AG9 IO_L12P_VRN_43, AG10 VCCO_43, AG11 IO_L18N_43, AG12 IO_L18P_43, AH1 IO_L7P_43, AH3 IO_L14P_43, AH4 IO_L10P_MRCC_43, AH5 IO_L0N_42, AH6 IO_L0P_42, AH7 VCCO_42, AH8 IO_L19P_42, AH9 IO_L14N_VREF_42, AH10 IO_L14P_42, AJ1 IO_L7N_43, AJ2 IO_L16N_43, AJ3 IO_L16P_43, AJ4 VCCO_42, AJ5 IO_L5N_42, AJ6 IO_L5P_42, AJ7 IO_L19N_42, AJ8 IO_L15P_42, AK1 VCCO_43, AK2 IO_L1N_42, AK3 IO_L3N_42, AK4 IO_L6N_42, AK5 IO_L10N_MRCC_42, AK7 IO_L15N_42, AL1 IO_L1P_42, AL2 IO_L3P_42, AL4 IO_L6P_42, AL5 IO_L10P_MRCC_42, AL6 IO_L18N_42, AM1 IO_L7P_42, AM2 IO_L7N_42, AM3 IO_L13N_42, AM4 IO_L13P_42, AM5 VCCO_42, AM6 IO_L18P_42, AN1 IO_L9N_MRCC_42, AN2 VCCO_42, AN3 IO_L11N_SRCC_42, AN4 IO_L17P_42, AN5 IO_L17N_42, AP1 IO_L9P_MRCC_42, AP2 IO_L2N_42, AP3 IO_L11P_SRCC_42, AR2 IO_L2P_42, AR3 IO_L16N_42, AR4 IO_L16P_42, AT1 IO_L4N_VREF_42, AT2 IO_L4P_42, AT3 VCCO_42, AU1 IO_L8N_SRCC_42, AU2 IO_L12N_VRP_42, AU3 IO_L12P_VRN_42, AV1 IO_L8P_SRCC_42
part N pins: AA1 IO_L7P_44, AA2 IO_L7N_44, AA4 IO_L5P_44, AA5 IO_L5N_44, AA6 IO_L0P_44, AA7 IO_L0N_44, AA8 VCCO_44, AA9 IO_L19P_44, AA10 IO_L17P_44, AA11 IO_L11N_SRCC_44, AB1 IO_L8P_SRCC_44, AB2 IO_L8N_SRCC_44, AB3 IO_L6N_44, AB4 IO_L10N_MRCC_44, AB5 VCCO_44, AB6 IO_L15N_44, AB7 IO_L15P_44, AB8 IO_L2N_44, AB9 IO_L2P_44, AB11 IO_L17N_44, AC1 IO_L16N_44, AC2 VCCO_44, AC3 IO_L6P_44, AC4 IO_L10P_MRCC_44, AC5 IO_L4N_VREF_44, AC6 IO_L4P_44, AC8 IO_L12N_VRP_44, AC9 IO_L12P_VRN_44, AD1 IO_L16P_44, AD2 IO_L14N_VREF_44, AD3 IO_L14P_44, AE2 IO_L18N_44, AE3 IO_L18P_44, M1 IO_L1N_45, N1 IO_L1P_45, N2 VCCO_45, P1 IO_L17P_45, P2 IO_L3P_45, P3 IO_L3N_45, R2 IO_L17N_45, R3 IO_L11P_SRCC_45, R4 IO_L0P_45, R5 IO_L0N_45, T1 IO_L16P_45, T2 IO_L16N_45, T3 VCCO_45, T4 IO_L11N_SRCC_45, T5 IO_L5N_45, T6 IO_L9P_MRCC_45, T7 IO_L9N_MRCC_45, U1 IO_L18N_45, U2 IO_L14P_45, U3 IO_L14N_VREF_45, U4 IO_L4N_VREF_45, U6 IO_L5P_45, U7 IO_L19N_45, U8 IO_L13P_45, U9 IO_L13N_45, U10 VCCO_45, U11 IO_L7P_45, V1 IO_L18P_45, V3 IO_L6N_45, V4 IO_L4P_45, V5 IO_L10P_MRCC_45, V6 IO_L10N_MRCC_45, V7 VCCO_45, V8 IO_L19P_45, V9 IO_L2P_45, V10 IO_L2N_45, V11 IO_L7N_45, W1 IO_L1P_44, W2 IO_L1N_44, W3 IO_L6P_45, W4 VCCO_45, W5 IO_L15N_45, W6 IO_L15P_45, W7 IO_L8N_SRCC_45, W8 IO_L8P_SRCC_45, W10 IO_L12N_VRP_45, W11 IO_L12P_VRN_45, Y1 VCCO_44, Y2 IO_L3N_44, Y3 IO_L3P_44, Y4 IO_L13N_44, Y5 IO_L13P_44, Y7 IO_L9P_MRCC_44, Y8 IO_L9N_MRCC_44, Y9 IO_L19N_44, Y10 IO_L11P_SRCC_44, Y11 VCCO_44
part O pins: A2 IO_L3N_47, A4 IO_L1N_47, B1 IO_L16P_47, B2 IO_L16N_47, B3 IO_L3P_47, B4 IO_L1P_47, B5 VCCO_47, C1 IO_L18P_47, C2 VCCO_47, C3 IO_L9P_MRCC_47, C4 IO_L9N_MRCC_47, C5 IO_L7P_47, D1 IO_L1P_46, D2 IO_L18N_47, D3 IO_L14N_VREF_47, D5 IO_L7N_47, E2 IO_L1N_46, E3 IO_L14P_47, E4 IO_L10N_MRCC_47, E5 IO_L5N_47, F1 IO_L3P_46, F2 IO_L3N_46, F3 VCCO_46, F4 IO_L10P_MRCC_47, F5 IO_L5P_47, G1 IO_L8P_SRCC_46, G2 IO_L8N_SRCC_46, G3 IO_L7P_46, G4 IO_L6N_47, H1 IO_L16N_46, H3 IO_L7N_46, H4 IO_L6P_47, H5 IO_L2P_47, H6 IO_L2N_47, J1 IO_L16P_46, J2 IO_L19P_46, J3 IO_L19N_46, J4 VCCO_47, J5 IO_L15N_47, J6 IO_L0P_47, K1 VCCO_46, K2 IO_L6N_46, K3 IO_L9P_MRCC_46, K4 IO_L9N_MRCC_46, K5 IO_L15P_47, K7 IO_L0N_47, L1 IO_L18P_46, L2 IO_L6P_46, L4 IO_L4P_46, L5 IO_L0P_46, L6 IO_L12P_VRN_47, L7 IO_L8N_SRCC_47, L8 VCCO_47, L9 IO_L13N_47, M2 IO_L18N_46, M3 IO_L14N_VREF_46, M4 IO_L4N_VREF_46, M5 VCCO_46, M6 IO_L0N_46, M7 IO_L12N_VRP_47, M8 IO_L8P_SRCC_47, M9 IO_L13P_47, M11 IO_L17P_47, N3 IO_L14P_46, N4 IO_L10N_MRCC_46, N5 IO_L5P_46, N6 IO_L5N_46, N8 IO_L11P_SRCC_46, N9 IO_L4P_47, N10 IO_L4N_VREF_47, N11 IO_L17N_47, N12 VCCO_47, N13 IO_L11P_SRCC_47, P5 IO_L10P_MRCC_46, P6 IO_L15N_46, P7 IO_L11N_SRCC_46, P8 IO_L17P_46, P9 VCCO_46, P10 IO_L13N_46, P11 IO_L19P_47, P12 IO_L19N_47, P13 IO_L11N_SRCC_47, R6 VCCO_46, R7 IO_L15P_46, R8 IO_L17N_46, R9 IO_L13P_46, R10 IO_L2N_46, T9 IO_L2P_46, T10 IO_L12N_VRP_46, T11 IO_L12P_VRN_46
part P pins: AA21 VREFN_0, AA22 VP_0, AB21 VN_0, AB22 VREFP_0, AC21 DXN_0, AC22 DXP_0, AD31 RDWR_B_0, AE12 TMS_0, AF13 CCLK_0, AF14 TDI_0, AF29 DIN_0, AF30 CSI_B_0, AH13 TDO_0, AH14 TCK_0, AH28 DOUT_BUSY_0, R14 INIT_B_0, R16 VCCO_0, R29 M1_0, R30 M0_0, T14 DONE_0, T15 HSWAPEN_0, T29 M2_0, T30 PROGRAM_B_0, U15 VCCO_0
part Q pins: A3 GND, A13 GND, A23 GND, A33 GND, AA12 VCCAUX, AA14 VCCINT, AA16 VCCINT, AA18 VCCINT, AA20 VCCINT, AA24 VCCINT, AA26 VCCINT, AA28 VCCINT, AA30 VCCAUX, AB13 VCCAUX, AB15 VCCINT, AB17 VCCINT, AB19 VCCINT, AB23 VCCINT, AB25 VCCINT, AB27 VCCINT, AB29 VCCAUX, AB31 VCCAUX, AC12 VCCAUX, AC14 VCCINT, AC16 VCCINT, AC18 VCCINT, AC20 VCCINT, AC24 VCCINT, AC26 VCCINT, AC28 VCCINT, AC30 VCCAUX, AD13 VCCAUX, AD15 VCCINT, AD17 VCCINT, AD19 VCCINT, AD21 VCCINT, AD23 VCCINT, AD25 VCCINT, AD27 VCCINT, AD29 VCCAUX, AE14 VCCINT, AE16 VCCINT, AE18 VCCINT, AE20 VCCINT, AE22 VCCINT, AE24 VCCINT, AE26 VCCINT, AE28 VCCINT, AE30 VCCAUX, AF15 VCCINT, AF17 VCCINT, AF19 VCCINT, AF21 VCCINT, AF23 VCCINT, AF25 VCCINT, AF27 VCCINT, AG14 VCCINT, AG16 VCCINT, AG18 VCCINT, AG20 VCCINT, AG22 VCCINT, AG24 VCCINT, AG26 VCCINT, AG28 VCCINT, AG29 VFS_0, AH15 VCCINT, AH17 VCCINT, AH19 VCCINT, AH21 VCCINT, AH23 VCCINT, AH25 VCCINT, AH27 VCCINT, B10 GND, B20 GND, B30 GND, B40 GND, C7 GND, C17 GND, C27 GND, C37 GND, D4 GND, D14 GND, D24 GND, D34 GND, E1 GND, E11 GND, E21 GND, E31 GND, E41 GND, F8 GND, F18 GND, F28 GND, F38 GND, G5 GND, G15 GND, G25 GND, G35 GND, H2 GND, H12 GND, H22 GND, H32 GND, H42 GND, J9 GND, J19 GND, J29 GND, J39 GND, K6 GND, K16 GND, K26 GND, K36 GND, L3 GND, L13 GND, L23 GND, L33 GND, M10 GND, M20 GND, M30 GND, M40 GND, N7 GND, N17 GND, N27 GND, N37 GND, P4 GND, P14 GND, P24 GND, P34 GND, R1 GND, R11 GND, R12 VCCAUX, R13 GND, R18 VCCINT, R19 GND, R20 VCCINT, R21 GND, R22 VCCINT, R23 GND, R24 VCCINT, R31 GND, R41 GND, T8 GND, T12 GND, T13 VCCAUX, T16 GND, T17 VCCINT, T18 GND, T19 VCCINT, T20 GND, T21 VCCINT, T22 GND, T23 VCCINT, T24 GND, T25 VCCINT, T26 GND, T27 VCCINT, T28 GND, T38 GND, U5 GND, U12 VCCAUX, U13 GND, U14 VBATT_0, U16 VCCINT, U17 GND, U18 VCCINT, U19 GND, U20 VCCINT, U21 GND, U22 VCCINT, U23 GND, U24 VCCINT, U25 GND, U26 VCCINT, U27 GND, U28 VCCINT, U29 GND, U30 VCCAUX, U35 GND, V2 GND, V12 GND, V13 VCCAUX, V14 GND, V15 VCCINT, V16 GND, V17 VCCINT, V18 GND, V19 VCCINT, V20 GND, V21 VCCINT, V22 GND, V23 VCCINT, V24 GND, V25 VCCINT, V26 GND, V27 VCCINT, V28 GND, V29 VCCAUX, V30 GND, V31 VCCAUX, V32 GND, V42 GND, W9 GND, W12 VCCAUX, W14 VCCINT, W16 VCCINT, W18 VCCINT, W20 VCCINT, W22 VCCINT, W24 VCCINT, W26 VCCINT, W28 VCCINT, W30 VCCAUX, Y13 VCCAUX, Y15 VCCINT, Y17 VCCINT, Y19 VCCINT, Y21 AVSS_0, Y22 AVDD_0, Y23 VCCINT, Y25 VCCINT, Y27 VCCINT, Y29 VCCINT, Y31 VCCAUX
part R pins: AA3 GND, AA13 GND, AA15 GND, AA17 GND, AA19 GND, AA23 GND, AA25 GND, AA27 GND, AA29 GND, AA31 GND, AA33 GND, AB10 GND, AB12 GND, AB14 GND, AB16 GND, AB18 GND, AB20 GND, AB24 GND, AB26 GND, AB28 GND, AB30 GND, AB40 GND, AC7 GND, AC13 GND, AC15 GND, AC17 GND, AC19 GND, AC23 GND, AC25 GND, AC27 GND, AC29 GND, AC31 GND, AC37 GND, AD4 GND, AD12 GND, AD14 GND, AD16 GND, AD18 GND, AD20 GND, AD22 GND, AD24 GND, AD26 GND, AD28 GND, AD30 GND, AD34 GND, AE1 GND, AE11 GND, AE13 GND, AE15 GND, AE17 GND, AE19 GND, AE21 GND, AE23 GND, AE25 GND, AE27 GND, AE29 GND, AE31 GND, AE41 GND, AF8 GND, AF16 GND, AF18 GND, AF20 GND, AF22 GND, AF24 GND, AF26 GND, AF28 GND, AF38 GND, AG5 GND, AG13 GND, AG15 GND, AG17 GND, AG19 GND, AG21 GND, AG23 GND, AG25 GND, AG27 GND, AG35 GND, AH2 GND, AH12 GND, AH18 GND, AH20 GND, AH22 GND, AH24 GND, AH32 GND, AH42 GND, AJ9 GND, AJ19 GND, AJ29 GND, AJ39 GND, AK6 GND, AK16 GND, AK26 GND, AK36 GND, AL3 GND, AL13 GND, AL23 GND, AL33 GND, AM10 GND, AM20 GND, AM30 GND, AM40 GND, AN7 GND, AN17 GND, AN27 GND, AN37 GND, AP4 GND, AP14 GND, AP24 GND, AP34 GND, AR1 GND, AR11 GND, AR21 GND, AR31 GND, AR41 GND, AT8 GND, AT18 GND, AT28 GND, AT38 GND, AU5 GND, AU15 GND, AU25 GND, AU35 GND, AV2 GND, AV12 GND, AV22 GND, AV32 GND, AV42 GND, AW9 GND, AW19 GND, AW29 GND, AW39 GND, AY6 GND, AY16 GND, AY26 GND, AY36 GND, BA3 GND, BA13 GND, BA23 GND, BA33 GND, BB10 GND, BB20 GND, BB30 GND, BB40 GND, W13 GND, W15 GND, W17 GND, W19 GND, W21 GND, W23 GND, W25 GND, W27 GND, W29 GND, W31 GND, W39 GND, Y6 GND, Y12 GND, Y14 GND, Y16 GND, Y18 GND, Y20 GND, Y24 GND, Y26 GND, Y28 GND, Y30 GND, Y36 GND

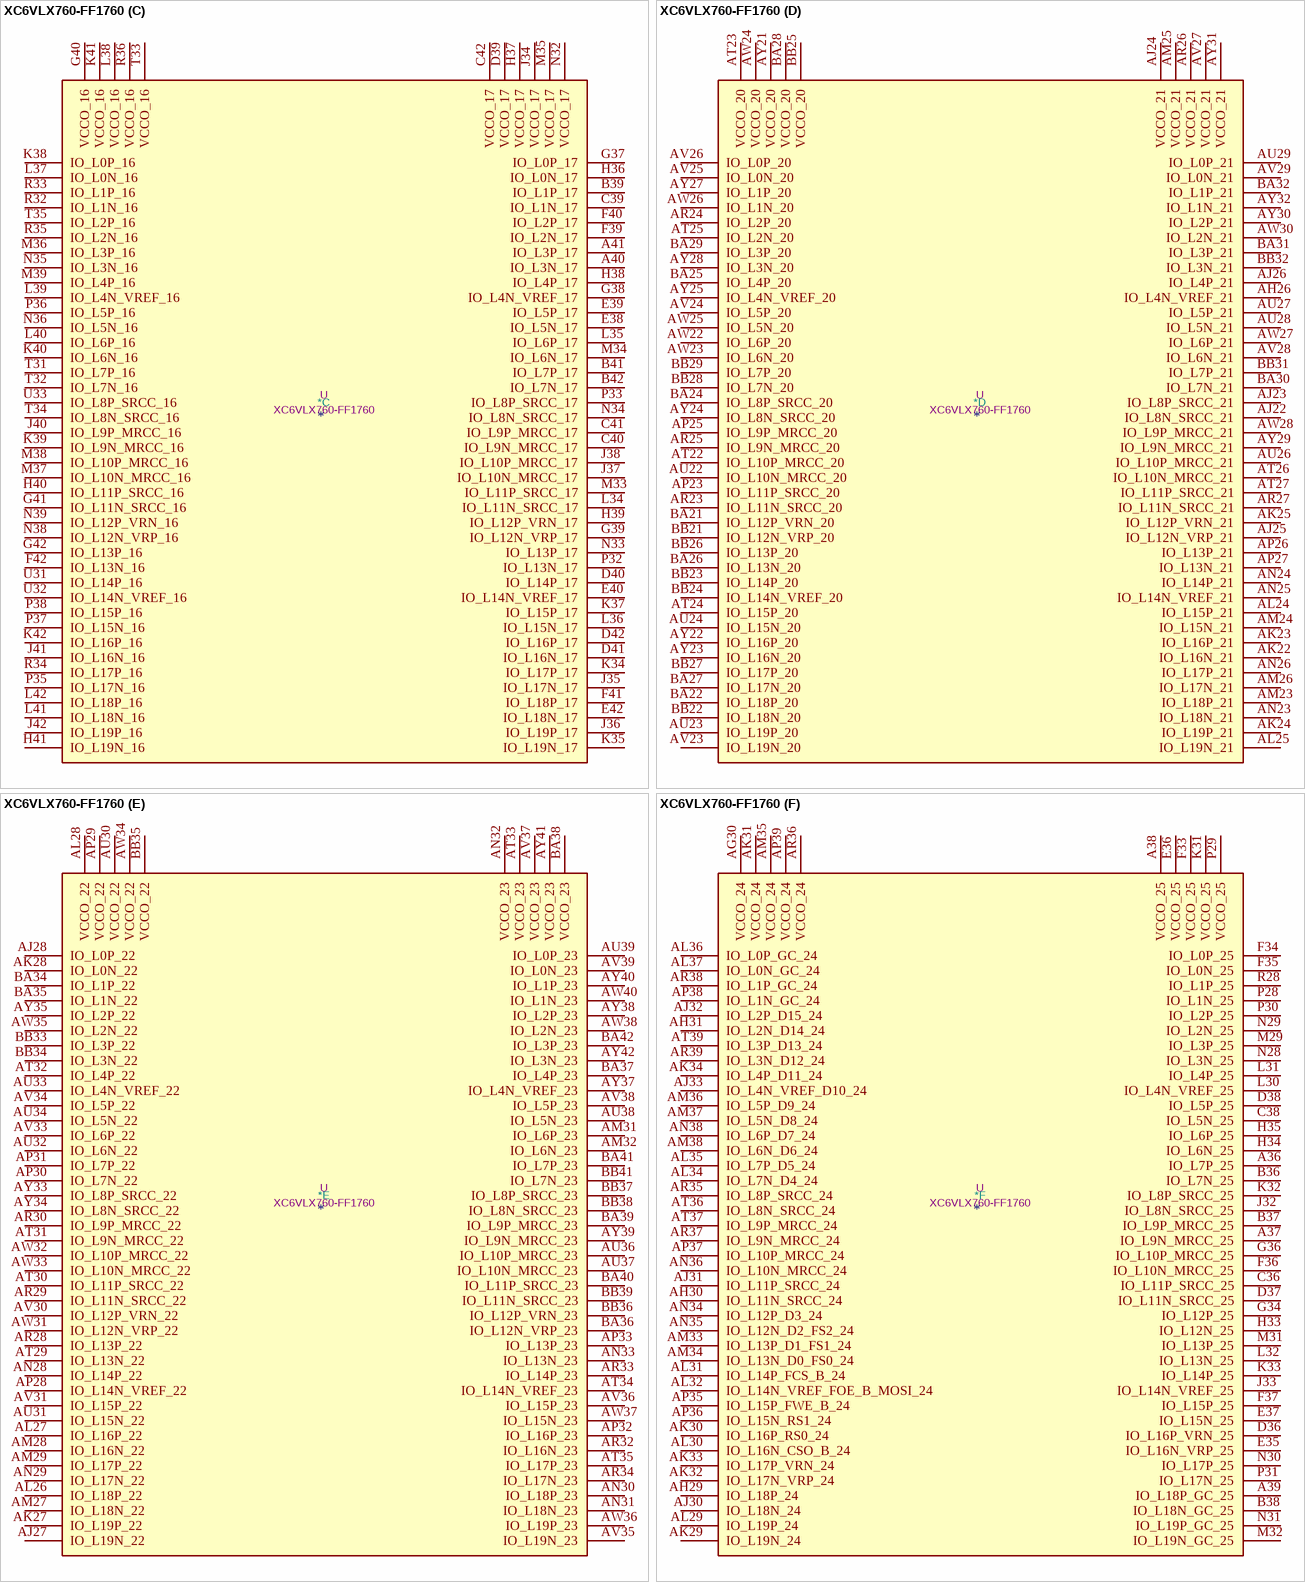
[diagram p81: symbol XC6VLX760-FF1760]

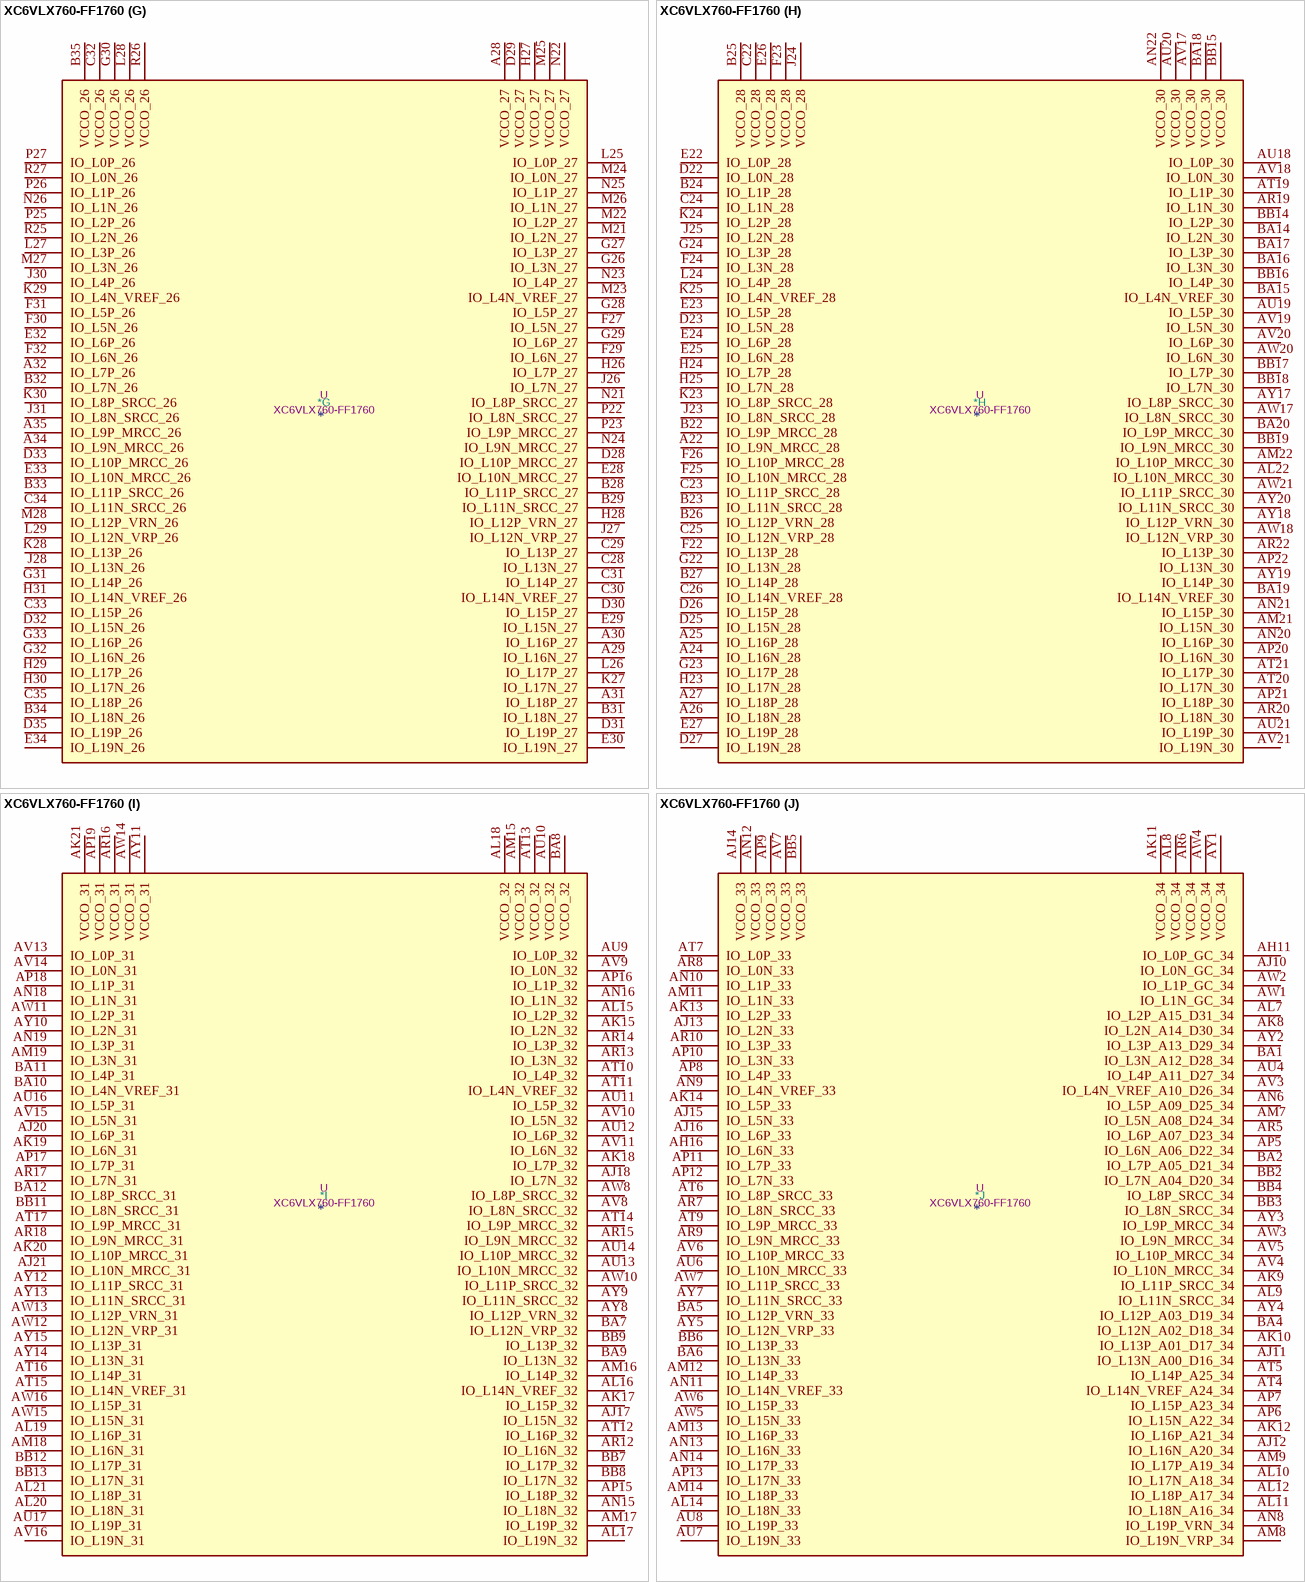
[diagram p82: symbol XC6VLX760-FF1760]

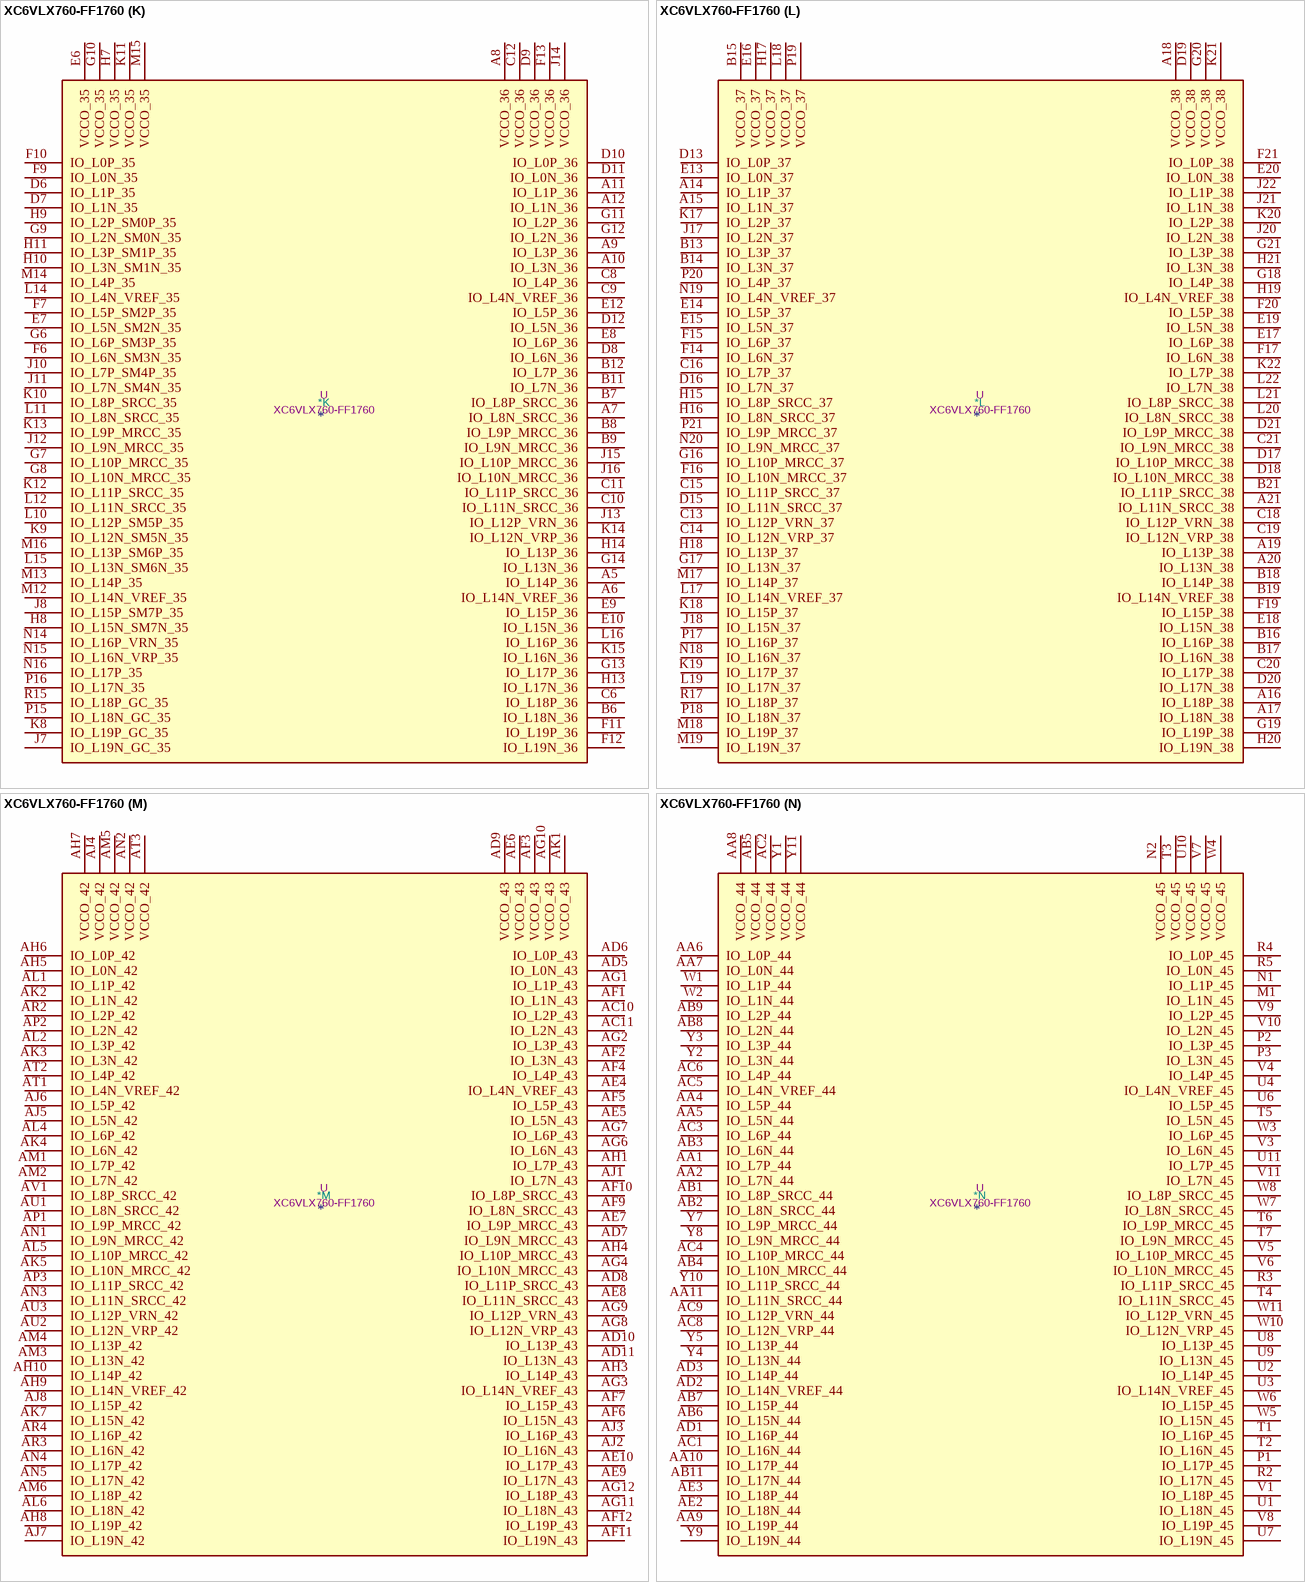
[diagram p83: symbol XC6VLX760-FF1760]

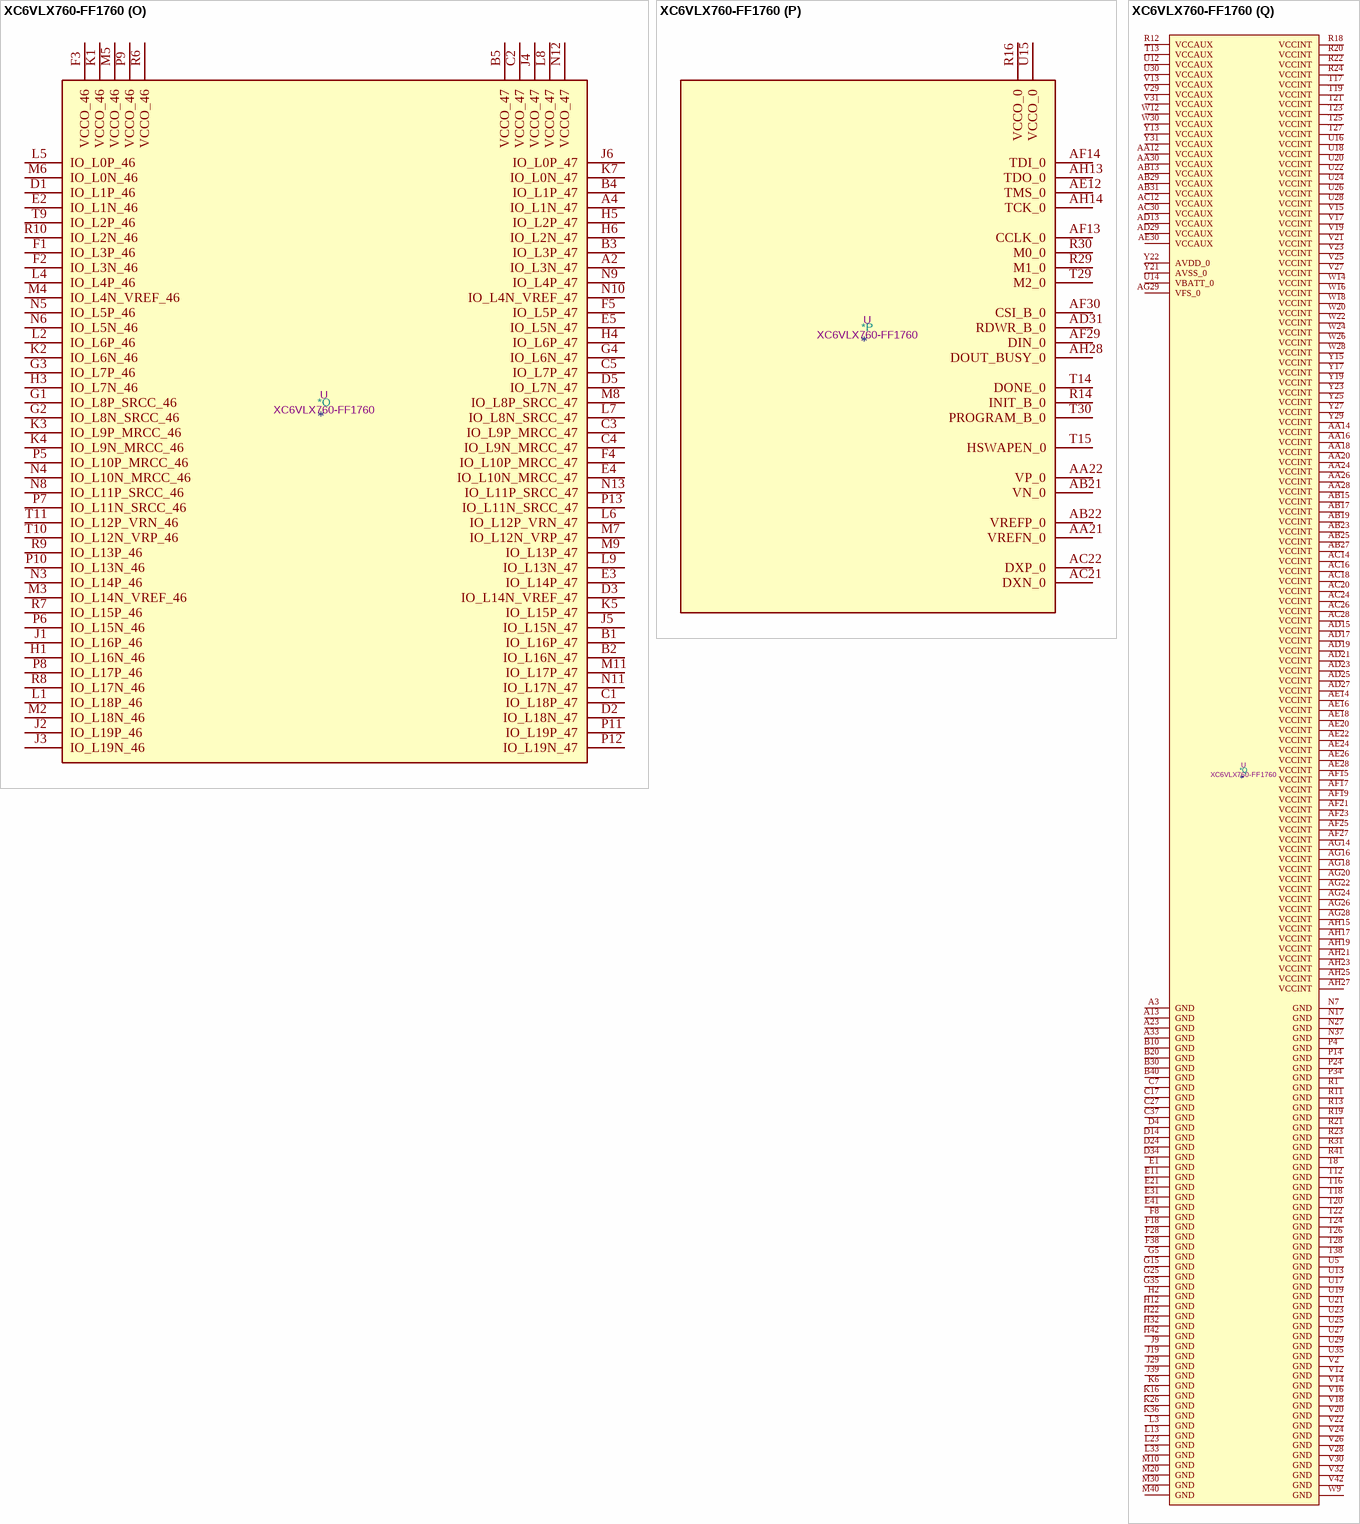
[diagram p84: symbol XC6VLX760-FF1760]

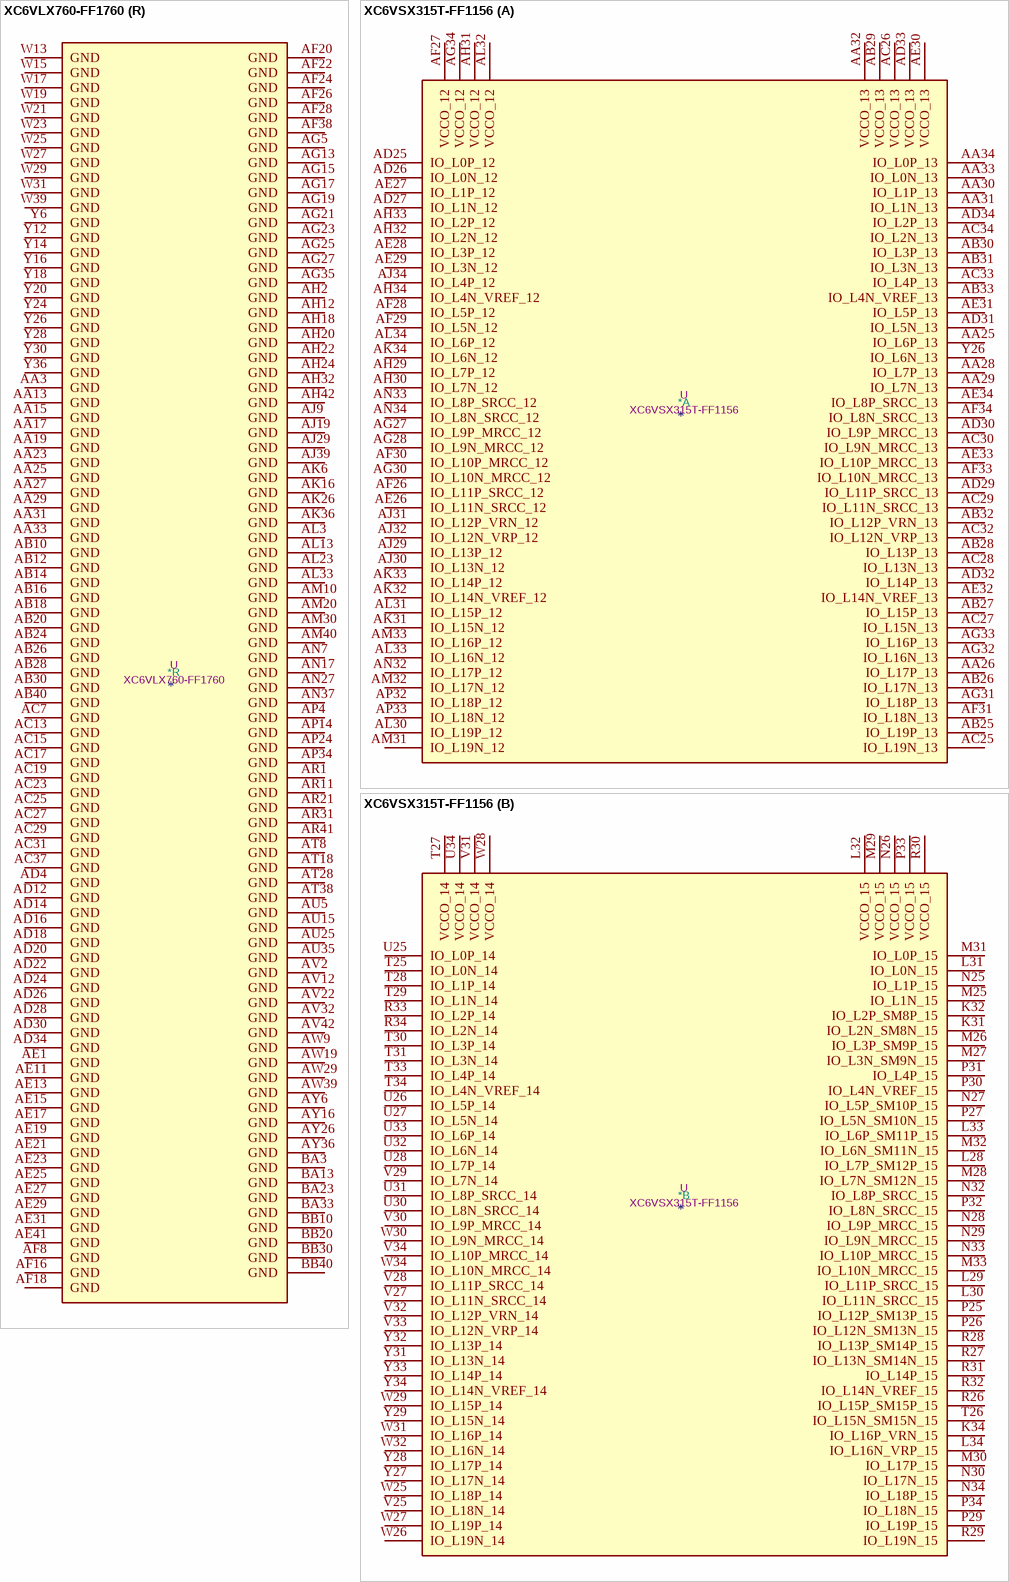
[diagram p85: symbols XC6VLX760-FF1760 to XC6VSX315T-FF1156]